# Altium schematic symbol library Schlib1.SchLib: 6 symbols
Pins are listed as number, name and electrical type; pins without a type are passive.

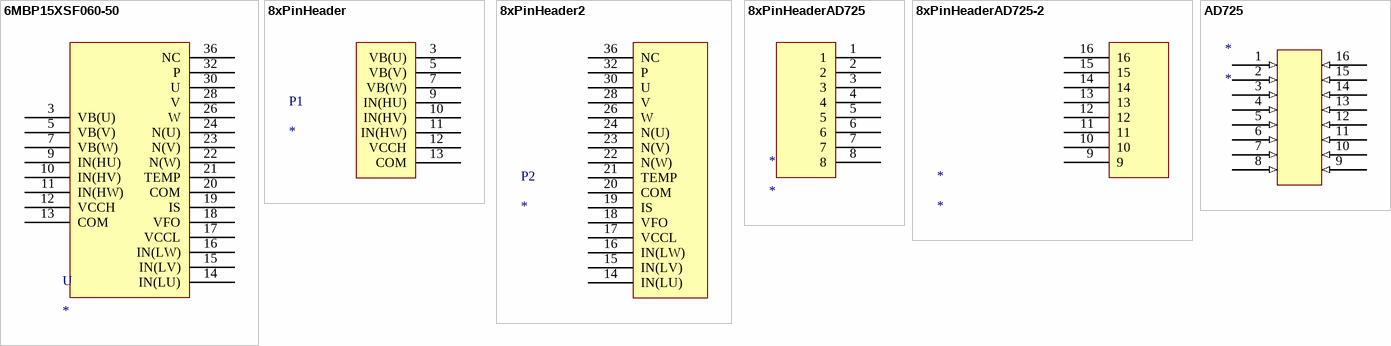
[diagram p0: symbols 6MBP15XSF060-50 to AD725]

## 6MBP15XSF060-50
designator U
600v 15a
pins: 3 VB(U), 5 VB(V), 7 VB(W), 9 IN(HU), 10 IN(HV), 11 IN(HW), 12 VCCH, 13 COM, 14 IN(LU), 15 IN(LV), 16 IN(LW), 17 VCCL, 18 VFO, 19 IS, 20 COM, 21 TEMP, 22 N(W), 23 N(V), 24 N(U), 26 W, 28 V, 30 U, 32 P, 36 NC

## 8xPinHeader
designator P1
footprint 8xPinHeader
pins: 3 VB(U), 5 VB(V), 7 VB(W), 9 IN(HU), 10 IN(HV), 11 IN(HW), 12 VCCH, 13 COM

## 8xPinHeader2
designator P2
footprint 8xPinHeader2
pins: 14 IN(LU), 15 IN(LV), 16 IN(LW), 17 VCCL, 18 VFO, 19 IS, 20 COM, 21 TEMP, 22 N(W), 23 N(V), 24 N(U), 26 W, 28 V, 30 U, 32 P, 36 NC

## 8xPinHeaderAD725
designator *
footprint 8xHeaderAD725-1
pins: 1, 2, 3, 4, 5, 6, 7, 8

## 8xPinHeaderAD725-2
designator *
footprint 8xHeaderAD725-2
pins: 9, 10, 11, 12, 13, 14, 15, 16

## AD725
designator *
footprint AD725 SOIC16 (SOIC, 16-Leads, Body 10,25x7,50mm, Pitch 1,27mm, IPC Medium Density)
pins: 1 (in), 2 (in), 3 (in), 4 (in), 5 (in), 6 (in), 7 (in), 8 (in), 9 (in), 10 (in), 11 (in), 12 (in), 13 (in), 14 (in), 15 (in), 16 (in)